# EAGLE library part MAX31855 (library MAX31855)
The MAX31855 performs cold-junction compensation and digitizes the signal from a K-, J-, N-, T-, S-, R-, or E-type thermocouple. The data is output in a signed 14-bit, SPI-compatible, read-only format. This converter resolves temperatures to 0.25°C, allows readings as high as +1800°C and as low as -270°C, and exhibits thermocouple accuracy of ±2°C for temperatures ranging from -200°C to +700°C for K-type thermocouples. For full range accuracies and other thermocouple types, see the Thermal Characteristics specifications.
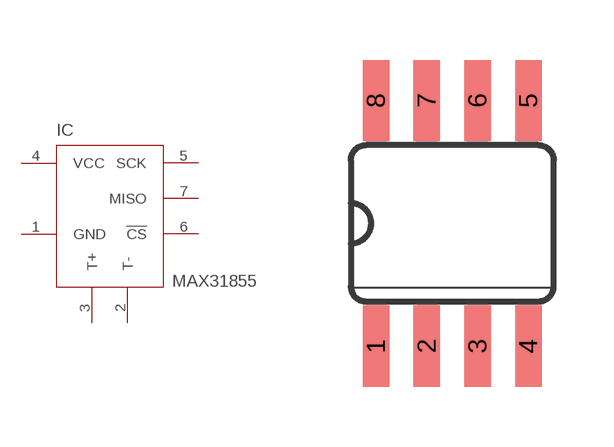
[diagram p0: symbol with the pads of SO-8; footprint SO-8]

Designator prefix IC

## MAX31855  [SO-8]
1  GND  pwr
2  T-  in
3  T+  in
4  VCC  pwr
5  SCK  in
6  !CS!  in
7  MISO  out

## Footprint SO-8 (pad centres in mm)
Small Outline Package SO-8, CASE 751
smd 0.66 x 2.032: 1 -1.905,-3.073; 2 -0.635,-3.073; 3 0.635,-3.073; 4 1.905,-3.073; 5 1.905,3.073; 6 0.635,3.073; 7 -0.635,3.073; 8 -1.905,3.073